# EAGLE library part 7499010121A (library my-Wurth-Elektronik)
LAN-Transformer WE-RJ45LAN 10/100BaseT
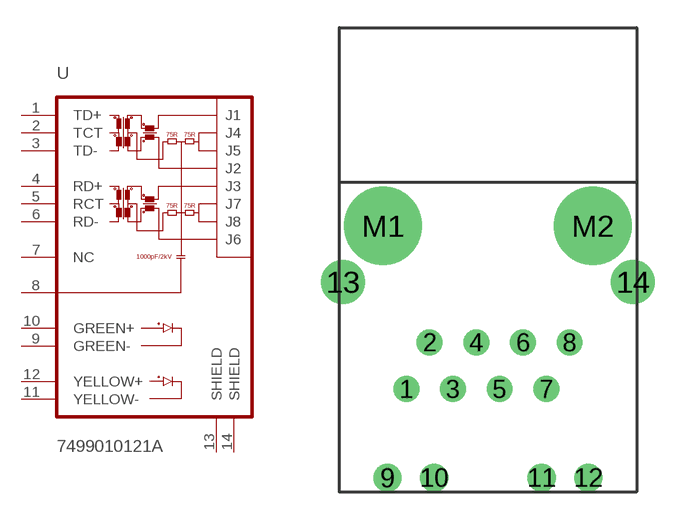
[diagram p0: symbol with the pads of RJ45-7499010121A; footprint RJ45-7499010121A]

Designator prefix -

## 7499010121A  [RJ45-7499010121A]
1  TD+
2  TCT
3  TD-
4  RD+
5  RCT
6  RD-
7  NC
8  8
9  GREEN-
10  GREEN+
11  YELLOW-
12  YELLOW+
13  SHIELD
14  SHIELD

## Footprint RJ45-7499010121A (pad centres in mm)
drill 0.9: 1 -4.445,-8.89; 2 -3.175,-6.35; 3 -1.905,-8.89; 4 -0.635,-6.35; 5 0.635,-8.89; 6 1.905,-6.35; 7 3.175,-8.89; 8 4.445,-6.35
drill 1.02: 9 -5.465,-13.72; 10 -2.925,-13.72; 11 2.925,-13.72; 12 5.465,-13.72
drill 1.6: 13 -7.9,-3.05; 14 7.9,-3.05
drill 3.25: M1 -5.715,0; M2 5.715,0